# Altium footprint library POWERSSO24.PcbLib: 1 footprints
Each footprint in its own frame and in the unit in brackets; x right, y up, seen from the top. Pads: shape width x height; smd on the part's side, far side on the other; paste and mask are expansions set on the pad; w line width, h text height; cw(c..) or ccw(c..) is an arc to the next point about the centre after c.
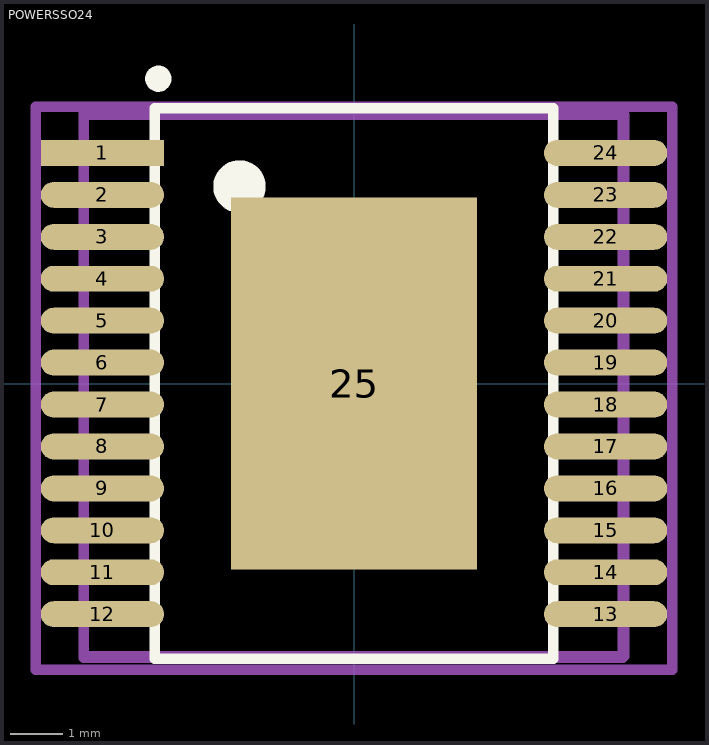
[diagram p0: the footprint, top view; thin cyan lines are the x and y axes]

## POWERSSO24 [mm] "VND5025 or VND5050 and others"
pads (25):
  rect 2.353x0.495 smd paste+0 mask+0: 1(-4.8,4.4)
  rrect100% 2.353x0.495 smd paste+0 mask+0: 2(-4.8,3.6) 3(-4.8,2.8) 4(-4.8,2) 5(-4.8,1.2) 6(-4.8,0.4) 7(-4.8,-0.4) 8(-4.8,-1.2) 9(-4.8,-2) 10(-4.8,-2.8) 11(-4.8,-3.6) 12(-4.8,-4.4) 13(4.8,-4.4) 14(4.8,-3.6) 15(4.8,-2.8) 16(4.8,-2) 17(4.8,-1.2) 18(4.8,-0.4) 19(4.8,0.4) 20(4.8,1.2) 21(4.8,2) 22(4.8,2.8) 23(4.8,3.6) 24(4.8,4.4)
  rect 4.7x7.1 smd: 25(0,0)
Top Overlay:
  circle w0.25: c-3.734,5.817 r0.125
  circle w0.5: c-2.184,3.759 r0.25
  lines w0.2: -3.8,-5.25 3.8,-5.25 3.8,-2.6 3.8,5.25 -3.8,5.25 -3.8,-5.25
Top Assembly:
  lines w0.2: -6.071,-5.461 -6.071,5.283 6.071,5.283 6.071,-5.461 -6.071,-5.461
  text ".Designator" at 0,0.188 h1
Top 3D Body:
  lines w0.2: -5.156,-5.232 5.131,-5.232 5.131,5.232 -5.156,5.232 -5.156,-5.232
Top Courtyard:
  lines w0.2: -5.151,-5.207 -5.151,5.131 5.152,5.131 5.152,-5.207 -5.151,-5.207
Top Component Center:
  lines w0.1: -0.5,0 0.5,0 ; 0,-0.5 0,0.5
3D body "VND5025AK-E.STEP": height 2.45, standoff 0, extent -5.15,-5.15 5.15,5.15